# Altium footprint library EECS418_lib.PcbLib: 39 footprints (part 1 of 3)
Each footprint in its own frame and in the unit in brackets; x right, y up, seen from the top. Pads: shape width x height; smd on the part's side, far side on the other; paste and mask are expansions set on the pad; w line width, h text height; cw(c..) or ccw(c..) is an arc to the next point about the centre after c.
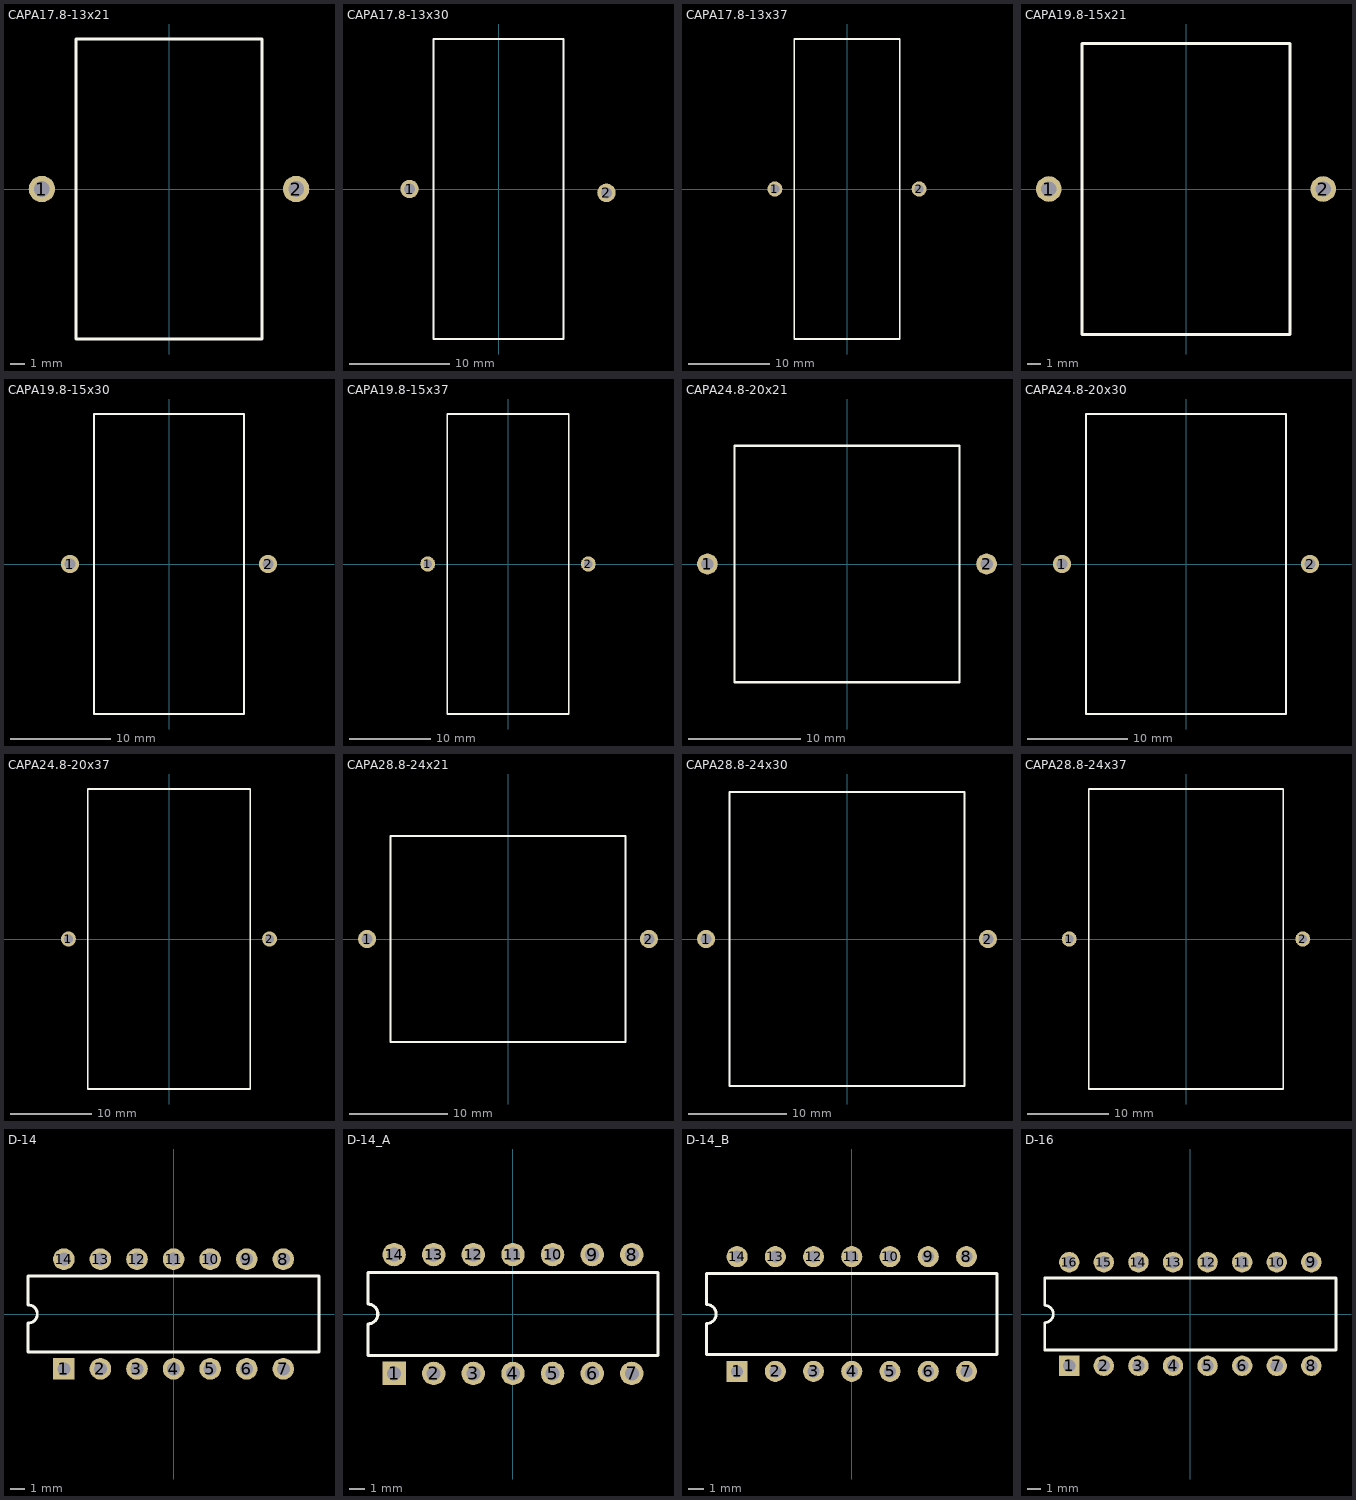
[diagram p0: the footprints below, top view; thin cyan lines are the x and y axes]

## CAPA17.8-13x21 [mm] "Capacitor, Ceramic, Thru-Hole, Axial Leads; Body 13 x 21 mm (LxDia. max) Pin Spacing 17.8 mm (typ)"
height 21
pads (2):
  round 1.85 hole 1.1: 1(-8.9,0) 2(8.9,0)
Top Overlay:
  lines w0.2: -6.5,-10.5 -6.5,10.5 6.5,10.5 6.5,-10.5 -6.5,-10.5

## CAPA17.8-13x30 [mm] "Capacitor, Ceramic, Thru-Hole, Axial Leads; Body 13 x 30 mm (LxDia. max) Pin Spacing 17.8 mm (typ)"
height 30
pads (2):
  round 1.85 hole 1.1: 1(-8.9,0) 2(10.795,-0.381)
Top Overlay:
  lines w0.2: -6.5,-15 -6.5,15 6.5,15 6.5,-15 -6.5,-15

## CAPA17.8-13x37 [mm] "Capacitor, Ceramic, Thru-Hole, Axial Leads; Body 13 x 37 mm (LxDia. max) Pin Spacing 17.8 mm (typ)"
height 37
pads (2):
  round 1.85 hole 1.1: 1(-8.9,0) 2(8.9,0)
Top Overlay:
  lines w0.2: -6.5,-18.5 6.5,-18.5 6.5,18.5 -6.5,18.5 -6.5,-18.5

## CAPA19.8-15x21 [mm] "Capacitor, Ceramic, Thru-Hole, Axial Leads; Body 15 x 21 mm (LxDia. max) Pin Spacing 19.8 mm (typ)"
height 21
pads (2):
  round 1.85 hole 1.1: 1(-9.9,0) 2(9.9,0)
Top Overlay:
  lines w0.2: -7.5,-10.5 -7.5,10.5 7.5,10.5 7.5,-10.5 -7.5,-10.5

## CAPA19.8-15x30 [mm] "Capacitor, Ceramic, Thru-Hole, Axial Leads; Body 15 x 30 mm (LxDia. max) Pin Spacing 19.8 mm (typ)"
height 30
pads (2):
  round 1.85 hole 1.1: 1(-9.9,0) 2(9.9,0)
Top Overlay:
  lines w0.2: -7.5,-15 7.5,-15 7.5,15 -7.5,15 -7.5,-15

## CAPA19.8-15x37 [mm] "Capacitor, Ceramic, Thru-Hole, Axial Leads; Body 15 x 37 mm (LxDia. max) Pin Spacing 19.8 mm (typ)"
height 37
pads (2):
  round 1.85 hole 1.1: 1(-9.9,0) 2(9.9,0)
Top Overlay:
  lines w0.2: -7.5,-18.5 7.5,-18.5 7.5,18.5 -7.5,18.5 -7.5,-18.5

## CAPA24.8-20x21 [mm] "Capacitor, Ceramic, Thru-Hole, Axial Leads; Body 20 x 21 mm (LxDia. max) Pin Spacing 24.8 mm (typ)"
height 21
pads (2):
  round 1.85 hole 1.1: 1(-12.4,0) 2(12.4,0)
Top Overlay:
  lines w0.2: -10,-10.5 -10,10.5 10,10.5 10,-10.5 -10,-10.5

## CAPA24.8-20x30 [mm] "Capacitor, Ceramic, Thru-Hole, Axial Leads; Body 20 x 30 mm (LxDia. max) Pin Spacing 24.8 mm (typ)"
height 30
pads (2):
  round 1.85 hole 1.1: 1(-12.4,0) 2(12.4,0)
Top Overlay:
  lines w0.2: -10,-15 10,-15 10,15 -10,15 -10,-15

## CAPA24.8-20x37 [mm] "Capacitor, Ceramic, Thru-Hole, Axial Leads; Body 20 x 37 mm (LxDia. max) Pin Spacing 24.8 mm (typ)"
height 37
pads (2):
  round 1.85 hole 1.1: 1(-12.4,0) 2(12.4,0)
Top Overlay:
  lines w0.2: -10,-18.5 -10,18.5 10,18.5 10,-18.5 -10,-18.5

## CAPA28.8-24x21 [mm] "Capacitor, Ceramic, Thru-Hole, Axial Leads; Body 24 x 21 mm (LxDia. max) Pin Spacing 28.8 mm (typ)"
height 21
pads (2):
  round 1.85 hole 1.1: 1(-14.4,0) 2(14.4,0)
Top Overlay:
  lines w0.2: -12,-10.5 -12,10.5 12,10.5 12,-10.5 -12,-10.5

## CAPA28.8-24x30 [mm] "Capacitor, Ceramic, Thru-Hole, Axial Leads; Body 24 x 30 mm (LxDia. max) Pin Spacing 28.8 mm (typ)"
height 30
pads (2):
  round 1.85 hole 1.1: 1(-14.4,0) 2(14.4,0)
Top Overlay:
  lines w0.2: -12,-15 -12,15 12,15 12,-15 -12,-15

## CAPA28.8-24x37 [mm] "Capacitor, Ceramic, Thru-Hole, Axial Leads; Body 24 x 37 mm (LxDia. max) Pin Spacing 28.8 mm (typ)"
height 37
pads (2):
  round 1.85 hole 1.1: 1(-14.4,0) 2(14.4,0)
Top Overlay:
  lines w0.2: -12,-18.5 -12,18.5 12,18.5 12,-18.5 -12,-18.5

## D-14 [mm] "DIP; 14 Leads; Row Spacing 7.62 mm; Pitch 2.54 mm"
height 5.08
pads (14):
  rect 1.5x1.5 hole 0.9: 1(-7.62,-3.81)
  round 1.5 hole 0.9: 2(-5.08,-3.81) 3(-2.54,-3.81) 4(0,-3.81) 5(2.54,-3.81) 6(5.08,-3.81) 7(7.62,-3.81) 8(7.62,3.81) 9(5.08,3.81) 10(2.54,3.81) 11(0,3.81) 12(-2.54,3.81) 13(-5.08,3.81) 14(-7.62,3.81)
Top Overlay:
  lines w0.2: -10.1,-2.65 10.1,-2.65 10.1,2.65 -10.1,2.65 -10.1,0.635 cw(c-10.1,0) -10.1,-0.635 -10.1,-2.65

## D-14_A [mm] "DIP; 14 Leads; Row Spacing 7.62 mm; Pitch 2.54 mm"
height 5.08
pads (14):
  rect 1.5x1.5 hole 0.9: 1(-7.62,-3.81)
  round 1.5 hole 0.9: 2(-5.08,-3.81) 3(-2.54,-3.81) 4(0,-3.81) 5(2.54,-3.81) 6(5.08,-3.81) 7(7.62,-3.81) 8(7.62,3.81) 9(5.08,3.81) 10(2.54,3.81) 11(0,3.81) 12(-2.54,3.81) 13(-5.08,3.81) 14(-7.62,3.81)
Top Overlay:
  lines w0.2: -9.3,-2.65 -9.3,-0.635 ccw(c-9.3,0) -9.3,0.635 -9.3,2.65 9.3,2.65 9.3,-2.65 -9.3,-2.65

## D-14_B [mm] "DIP; 14 Leads; Row Spacing 7.62 mm; Pitch 2.54 mm"
height 5.08
pads (14):
  rect 1.4x1.4 hole 0.8: 1(-7.62,-3.81)
  round 1.4 hole 0.8: 2(-5.08,-3.81) 3(-2.54,-3.81) 4(0,-3.81) 5(2.54,-3.81) 6(5.08,-3.81) 7(7.62,-3.81) 8(7.62,3.81) 9(5.08,3.81) 10(2.54,3.81) 11(0,3.81) 12(-2.54,3.81) 13(-5.08,3.81) 14(-7.62,3.81)
Top Overlay:
  lines w0.2: -9.65,-2.7 -9.65,-0.635 ccw(c-9.65,0) -9.65,0.635 -9.65,2.7 9.65,2.7 9.65,-2.7 -9.65,-2.7

## D-16 [mm] "DIP; 16 Leads; Row Spacing 7.62 mm; Pitch 2.54 mm"
height 5.08
pads (16):
  rect 1.5x1.5 hole 0.9: 1(-8.89,-3.81)
  round 1.5 hole 0.9: 2(-6.35,-3.81) 3(-3.81,-3.81) 4(-1.27,-3.81) 5(1.27,-3.81) 6(3.81,-3.81) 7(6.35,-3.81) 8(8.89,-3.81) 9(8.89,3.81) 10(6.35,3.81) 11(3.81,3.81) 12(1.27,3.81) 13(-1.27,3.81) 14(-3.81,3.81) 15(-6.35,3.81) 16(-8.89,3.81)
Top Overlay:
  lines w0.2: -10.7,-2.65 -10.7,-0.635 ccw(c-10.7,0) -10.7,0.635 -10.7,2.65 10.7,2.65 10.7,-2.65 -10.7,-2.65